# EAGLE library part HUZZAH_SHIELD (library DZ)
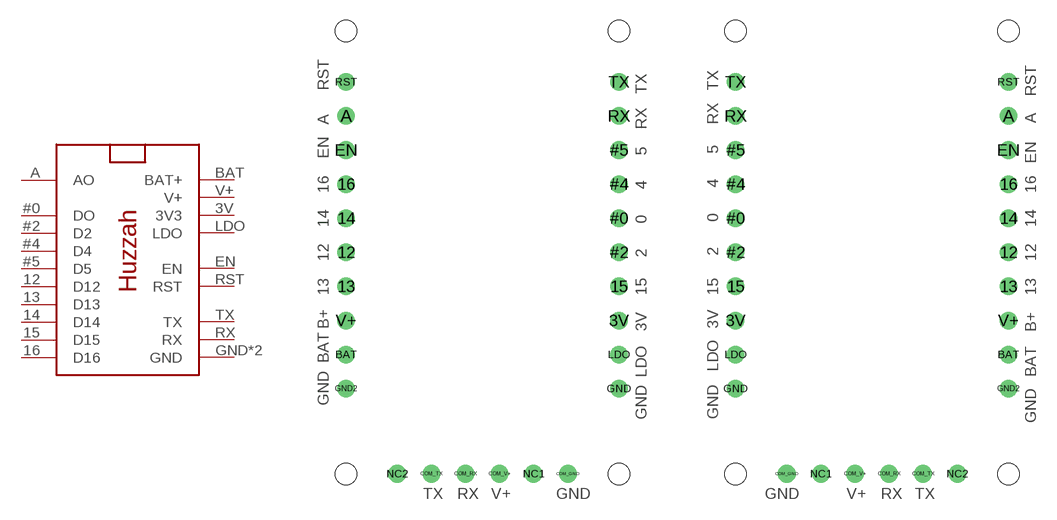
[diagram p1: symbol with the pads of HUZZAH_INSIDE; footprints HUZZAH_INSIDE, HUZZAH_OUTSIDE]

Designator prefix -

## HUZZAH_SHIELDINSIDE  [HUZZAH_INSIDE]
3V  3V3
12  D12
13  D13
14  D14
15  D15
16  D16
#0  DO
#2  D2
#4  D4
#5  D5
A  AO
BAT  BAT+
EN  EN
GND  GND
GND2  GND
LDO  LDO
RST  RST
RX  RX
TX  TX
V+  V+

## HUZZAH_SHIELDOUTSIDE  [HUZZAH_OUTSIDE]
Pads as for HUZZAH_INSIDE

## Footprint HUZZAH_INSIDE (pad centres in mm)
drill 0.8: 3V 22.86,13.97; 12 2.54,19.05; 13 2.54,16.51; 14 2.54,21.59; 15 22.86,16.51; 16 2.54,24.13; #0 22.86,21.59; #2 22.86,19.05; #4 22.86,24.13; #5 22.86,26.67; A 2.54,29.21; BAT 2.54,11.43; COM_GND 19.05,2.54; COM_RX 11.43,2.54; COM_TX 8.89,2.54; COM_V+ 13.97,2.54; EN 2.54,26.67; GND 22.86,8.89; GND2 2.54,8.89; LDO 22.86,11.43; NC1 16.51,2.54; NC2 6.35,2.54; RST 2.54,31.75; RX 22.86,29.21; TX 22.86,31.75; V+ 2.54,13.97
hole 1.6 at 2.54,35.56
hole 1.6 at 22.86,35.56
hole 1.6 at 2.54,2.54
hole 1.6 at 22.86,2.54

## Footprint HUZZAH_OUTSIDE (pad centres in mm)
drill 0.8: 3V 2.54,13.97; 12 22.86,19.05; 13 22.86,16.51; 14 22.86,21.59; 15 2.54,16.51; 16 22.86,24.13; #0 2.54,21.59; #2 2.54,19.05; #4 2.54,24.13; #5 2.54,26.67; A 22.86,29.21; BAT 22.86,11.43; COM_GND 6.35,2.54; COM_RX 13.97,2.54; COM_TX 16.51,2.54; COM_V+ 11.43,2.54; EN 22.86,26.67; GND 2.54,8.89; GND2 22.86,8.89; LDO 2.54,11.43; NC1 8.89,2.54; NC2 19.05,2.54; RST 22.86,31.75; RX 2.54,29.21; TX 2.54,31.75; V+ 22.86,13.97
hole 1.6 at 2.54,35.56
hole 1.6 at 22.86,35.56
hole 1.6 at 2.54,2.54
hole 1.6 at 22.86,2.54